# Altium schematic symbol library FTSH-105-01-L-DV-K.SchLib: 1 symbol
Pins are listed as number, name and electrical type; pins without a type are passive.

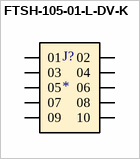
[diagram p0: symbol FTSH-105-01-L-DV-K]

## FTSH-105-01-L-DV-K
designator J?
footprint FTSH-105-01-XXX-DV-K
pins: 1 01, 2 02, 3 03, 4 04, 5 05, 6 06, 7 07, 8 08, 9 09, 10